# EAGLE library part MPL115A1 (library DorMouse)
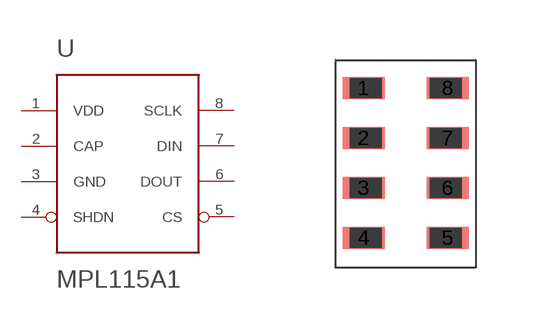
[diagram p2: symbol with the pads of LGA-8; footprint LGA-8]

Designator prefix -

## MPL115A1  [LGA-8]
1  VDD
2  CAP
3  GND
4  SHDN
5  CS
6  DOUT
7  DIN
8  SCLK

## Footprint LGA-8 (pad centres in mm)
smd 1.05 x 0.55: 1 0.35,4; 2 0.35,2.75; 3 0.35,1.5; 4 0.35,0.25; 5 2.45,0.25; 6 2.45,1.5; 7 2.45,2.75; 8 2.45,4